# Altium schematic symbol library L_Inductance.SchLib: 1 symbol
Pins are listed as number, name and electrical type; pins without a type are passive.

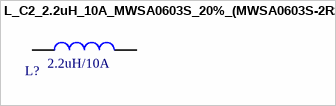
[diagram p0: symbol L_C2_2.2uH_10A_MWSA0603S_20%_(MWSA0603S-2R2MT)]

## L_C2_2.2uH_10A_MWSA0603S_20%_(MWSA0603S-2R2MT)
designator L?  value 2.2uH/10A  (hidden comment: L_C2_2.2uH_10A_MWSA0603S_20%_(MWSA0603S-2R2MT))
ERP: 01.03.050
footprint L_MWSA0603S
pins: 1, 2